# EAGLE library part BOB_10PIN (library CEDT_JANUARY_2015_v6)
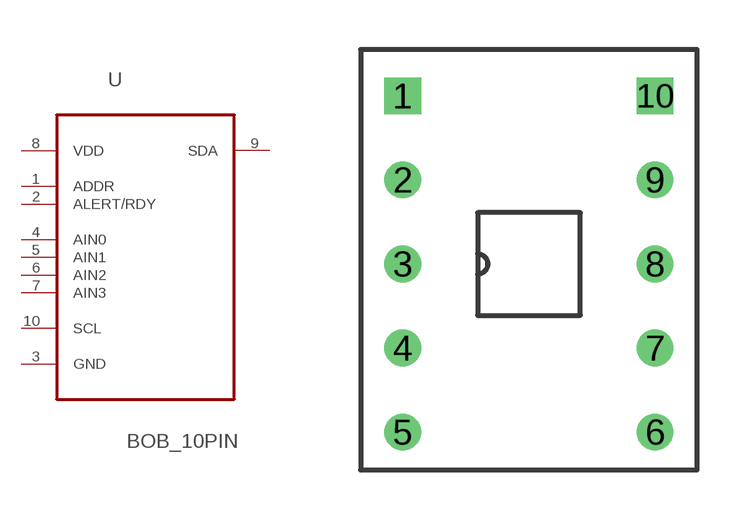
[diagram p89: symbol with the pads of BOB10; footprint BOB10]

Designator prefix -

## BOB_10PIN  [BOB10]
1  ADDR  in
2  ALERT/RDY  in
3  GND  pas
4  AIN0  in
5  AIN1  in
6  AIN2  in
7  AIN3  in
8  VDD  pwr
9  SDA
10  SCL  in

## Footprint BOB10 (pad centres in mm)
drill 0.6 square: 1 -3.81,5.08; 10 3.81,5.08
drill 0.6: 2 -3.81,2.54; 3 -3.81,0; 4 -3.81,-2.54; 5 -3.81,-5.08; 6 3.81,-5.08; 7 3.81,-2.54; 8 3.81,0; 9 3.81,2.54